# EAGLE library part MP8936Y (library mita-akiba)
Binary to 7-segment LED driver
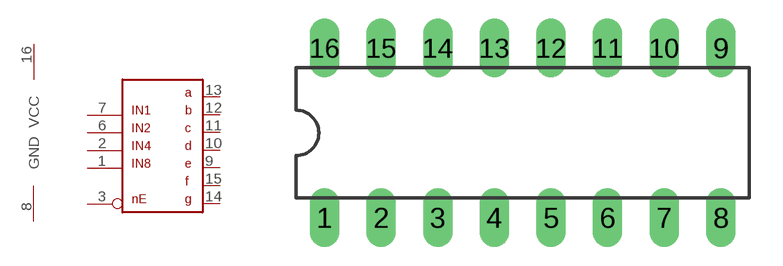
[diagram p18: symbol with the pads of DIL16; footprint DIL16]

Designator prefix -; gates G$1=MP8936Y G$2=VCCGND

## MP8936Y  [DIL16]
1  G$1:IN8  in
2  G$1:IN4  in
3  G$1:NE  in
6  G$1:IN2  in
7  G$1:IN1  in
8  G$2:GND  pwr
9  G$1:E  out
10  G$1:D  out
11  G$1:C  out
12  G$1:B  out
13  G$1:A  out
14  G$1:G  out
15  G$1:F  out
16  G$2:VCC  pwr

## Footprint DIL16 (pad centres in mm)
Dual In Line Package
drill 0.813 long: 1 -8.89,-3.81; 2 -6.35,-3.81; 3 -3.81,-3.81; 4 -1.27,-3.81; 5 1.27,-3.81; 6 3.81,-3.81; 7 6.35,-3.81; 8 8.89,-3.81; 9 8.89,3.81; 10 6.35,3.81; 11 3.81,3.81; 12 1.27,3.81; 13 -1.27,3.81; 14 -3.81,3.81; 15 -6.35,3.81; 16 -8.89,3.81